# EAGLE library part KL3333 (library elements)
GPS Модуль http://naviaglonass.ru/product/kl3333/
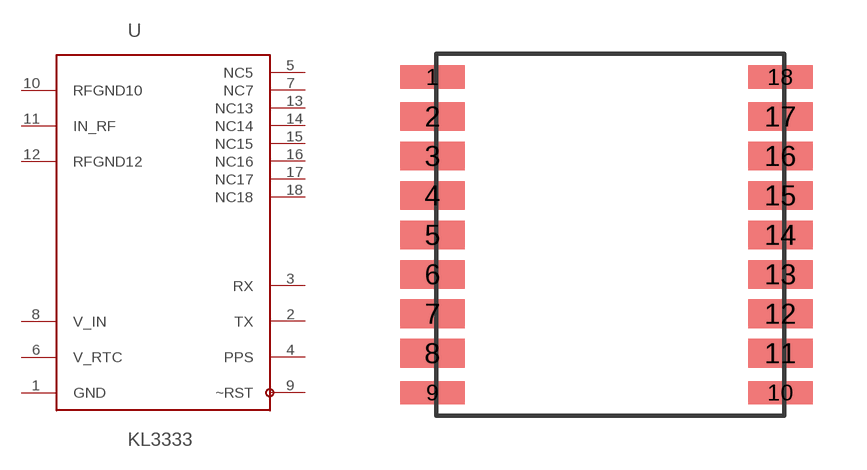
[diagram p2: symbol with the pads of KL3333; footprint KL3333]

Designator prefix -

## KL3333  [KL3333]
1  GND  pwr
2  TX  out
3  RX  in
4  PPS  out
5  NC5  nc
6  V_RTC  pwr
7  NC7  nc
8  V_IN  pwr
9  ~RST  in
10  RFGND10  pwr
11  IN_RF  in
12  RFGND12  pwr
13  NC13  nc
14  NC14  nc
15  NC15  nc
16  NC16  nc
17  NC17  nc
18  NC18  nc

## Footprint KL3333 (pad centres in mm)
smd 1.8 x 0.65: 1 -4.95,4.4; 9 -4.95,-4.4; 10 4.75,-4.4; 18 4.75,4.4
smd 1.8 x 0.8: 2 -4.95,3.3; 3 -4.95,2.2; 4 -4.95,1.1; 5 -4.95,0; 6 -4.95,-1.1; 7 -4.95,-2.2; 8 -4.95,-3.3; 11 4.75,-3.3; 12 4.75,-2.2; 13 4.75,-1.1; 14 4.75,0; 15 4.75,1.1; 16 4.75,2.2; 17 4.75,3.3